# EAGLE library part CN3083 (library HermitRetro)
CN3083 Power Management IC
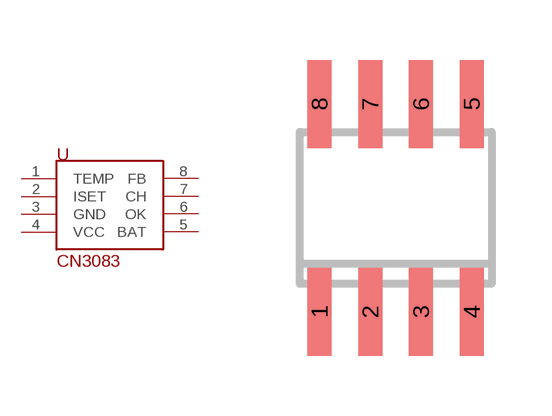
[diagram p3: symbol with the pads of SOIC8; footprint SOIC8]

Designator prefix -

## CN3083 (UNIT_PRICE: 1.20; VENDOR_ID: eBay; VENDOR_SKU: 181047835097)  [SOIC8]
1  TEMP
2  ISET
3  GND
4  VCC
5  BAT
6  OK
7  CH
8  FB

## Footprint SOIC8 (pad centres in mm)
Small Outline IC
smd 0.6 x 2.2: 1 -1.905,-2.6; 2 -0.635,-2.6; 3 0.635,-2.6; 4 1.905,-2.6; 5 1.905,2.6; 6 0.635,2.6; 7 -0.635,2.6; 8 -1.905,2.6